# Altium schematic symbol library ftdichip.SCHLIB: 7 symbols
Pins are listed as number, name and electrical type; pins without a type are passive.

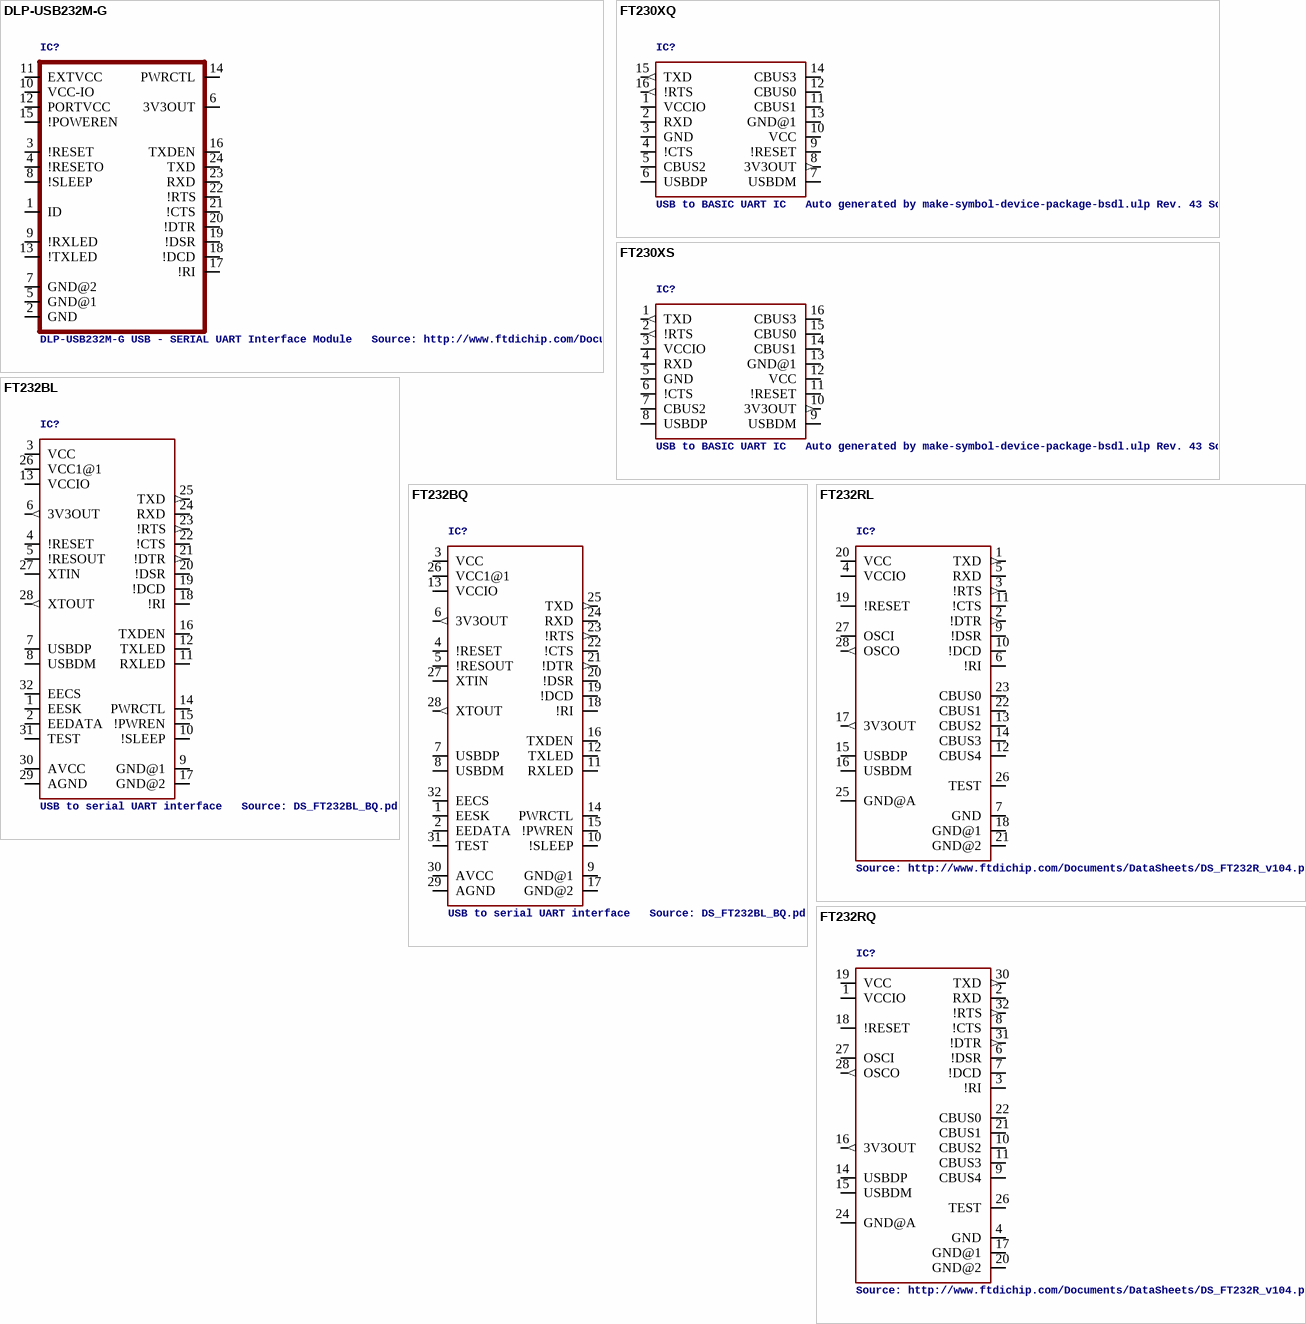
[diagram p0: symbols DLP-USB232M-G to FT232RQ]

## DLP-USB232M-G
designator IC?, comment DLP-USB232M-G USB - SERIAL UART Interface Module   Source: http://www.ftdichip.com/Documents/DataSheets/DLP/dlp-usb232m15.pdf
OC_FARNELL: unknown; OC_NEWARK: unknown
footprint DLP-USB232M
pins: 1 ID, 2 GND, 3 !RESET, 4 !RESETO, 5 GND@1, 6 3V3OUT, 7 GND@2, 8 !SLEEP, 9 !RXLED, 10 VCC-IO, 11 EXTVCC, 12 PORTVCC, 13 !TXLED, 14 PWRCTL, 15 !POWEREN, 16 TXDEN, 17 !RI, 18 !DCD, 19 !DSR, 20 !DTR, 21 !CTS, 22 !RTS, 23 RXD, 24 TXD

## FT230XQ
designator IC?, comment USB to BASIC UART IC   Auto generated by make-symbol-device-package-bsdl.ulp Rev. 43 Source:  Data sheet
footprint QFN16
pins: 1 VCCIO (power), 2 RXD, 3 GND (power), 4 !CTS, 5 CBUS2, 6 USBDP, 7 USBDM, 8 3V3OUT (out), 9 !RESET, 10 VCC (power), 11 CBUS1, 12 CBUS0, 13 GND@1 (power), 14 CBUS3, 15 TXD (out), 16 !RTS (out)

## FT230XS
designator IC?, comment USB to BASIC UART IC   Auto generated by make-symbol-device-package-bsdl.ulp Rev. 43 Source:  Data sheet
footprint SSOP16
pins: 1 TXD (out), 2 !RTS (out), 3 VCCIO (power), 4 RXD, 5 GND (power), 6 !CTS, 7 CBUS2, 8 USBDP, 9 USBDM, 10 3V3OUT (out), 11 !RESET, 12 VCC (power), 13 GND@1 (power), 14 CBUS1, 15 CBUS0, 16 CBUS3

## FT232BL
designator IC?, comment USB to serial UART interface   Source: DS_FT232BL_BQ.pdf
MPN: FT232BL/TR; MF: FARNELL; OC_FARNELL: unknown; OC_NEWARK: 38K1551
footprint LQFP32-7X7
pins: 1 EESK, 2 EEDATA, 3 VCC (power), 4 !RESET, 5 !RESOUT, 6 3V3OUT (out), 7 USBDP, 8 USBDM, 9 GND@1 (power), 10 !SLEEP, 11 RXLED, 12 TXLED, 13 VCCIO (power), 14 PWRCTL, 15 !PWREN, 16 TXDEN, 17 GND@2 (power), 18 !RI, 19 !DCD, 20 !DSR, 21 !DTR (out), 22 !CTS, 23 !RTS (out), 24 RXD, 25 TXD (out), 26 VCC1@1 (power), 27 XTIN, 28 XTOUT (out), 29 AGND (power), 30 AVCC (power), 31 TEST, 32 EECS

## FT232BQ
designator IC?, comment USB to serial UART interface   Source: DS_FT232BL_BQ.pdf
OC_FARNELL: unknown; OC_NEWARK: unknown
footprint QFN32
pins: 1 EESK, 2 EEDATA, 3 VCC (power), 4 !RESET, 5 !RESOUT, 6 3V3OUT (out), 7 USBDP, 8 USBDM, 9 GND@1 (power), 10 !SLEEP, 11 RXLED, 12 TXLED, 13 VCCIO (power), 14 PWRCTL, 15 !PWREN, 16 TXDEN, 17 GND@2 (power), 18 !RI, 19 !DCD, 20 !DSR, 21 !DTR (out), 22 !CTS, 23 !RTS (out), 24 RXD, 25 TXD (out), 26 VCC1@1 (power), 27 XTIN, 28 XTOUT (out), 29 AGND (power), 30 AVCC (power), 31 TEST, 32 EECS

## FT232RL
designator IC?, comment Source: http://www.ftdichip.com/Documents/DataSheets/DS_FT232R_v104.pdf
MPN: FT232RL; OC_FARNELL: 1146032; OC_NEWARK: 91K9918
footprint SSOP28
pins: 1 TXD (out), 2 !DTR (out), 3 !RTS (out), 4 VCCIO (power), 5 RXD, 6 !RI, 7 GND (power), 9 !DSR, 10 !DCD, 11 !CTS, 12 CBUS4, 13 CBUS2, 14 CBUS3, 15 USBDP, 16 USBDM, 17 3V3OUT (out), 18 GND@1 (power), 19 !RESET, 20 VCC (power), 21 GND@2 (power), 22 CBUS1, 23 CBUS0, 25 GND@A (power), 26 TEST, 27 OSCI, 28 OSCO (out)

## FT232RQ
designator IC?, comment Source: http://www.ftdichip.com/Documents/DataSheets/DS_FT232R_v104.pdf
MPN: FT232RQ; OC_FARNELL: 1146033; OC_NEWARK: 91K9919
footprint QFN32
pins: 1 VCCIO (power), 2 RXD, 3 !RI, 4 GND (power), 6 !DSR, 7 !DCD, 8 !CTS, 9 CBUS4, 10 CBUS2, 11 CBUS3, 14 USBDP, 15 USBDM, 16 3V3OUT (out), 17 GND@1 (power), 18 !RESET, 19 VCC (power), 20 GND@2 (power), 21 CBUS1, 22 CBUS0, 24 GND@A (power), 26 TEST, 27 OSCI, 28 OSCO (out), 30 TXD (out), 31 !DTR (out), 32 !RTS (out)